# Altium footprint library Inductor_SMD.PcbLib: 587 footprints (part 34 of 37)
Each footprint in its own frame and in the unit in brackets; x right, y up, seen from the top. Pads: shape width x height; smd on the part's side, far side on the other; paste and mask are expansions set on the pad; w line width, h text height; cw(c..) or ccw(c..) is an arc to the next point about the centre after c.
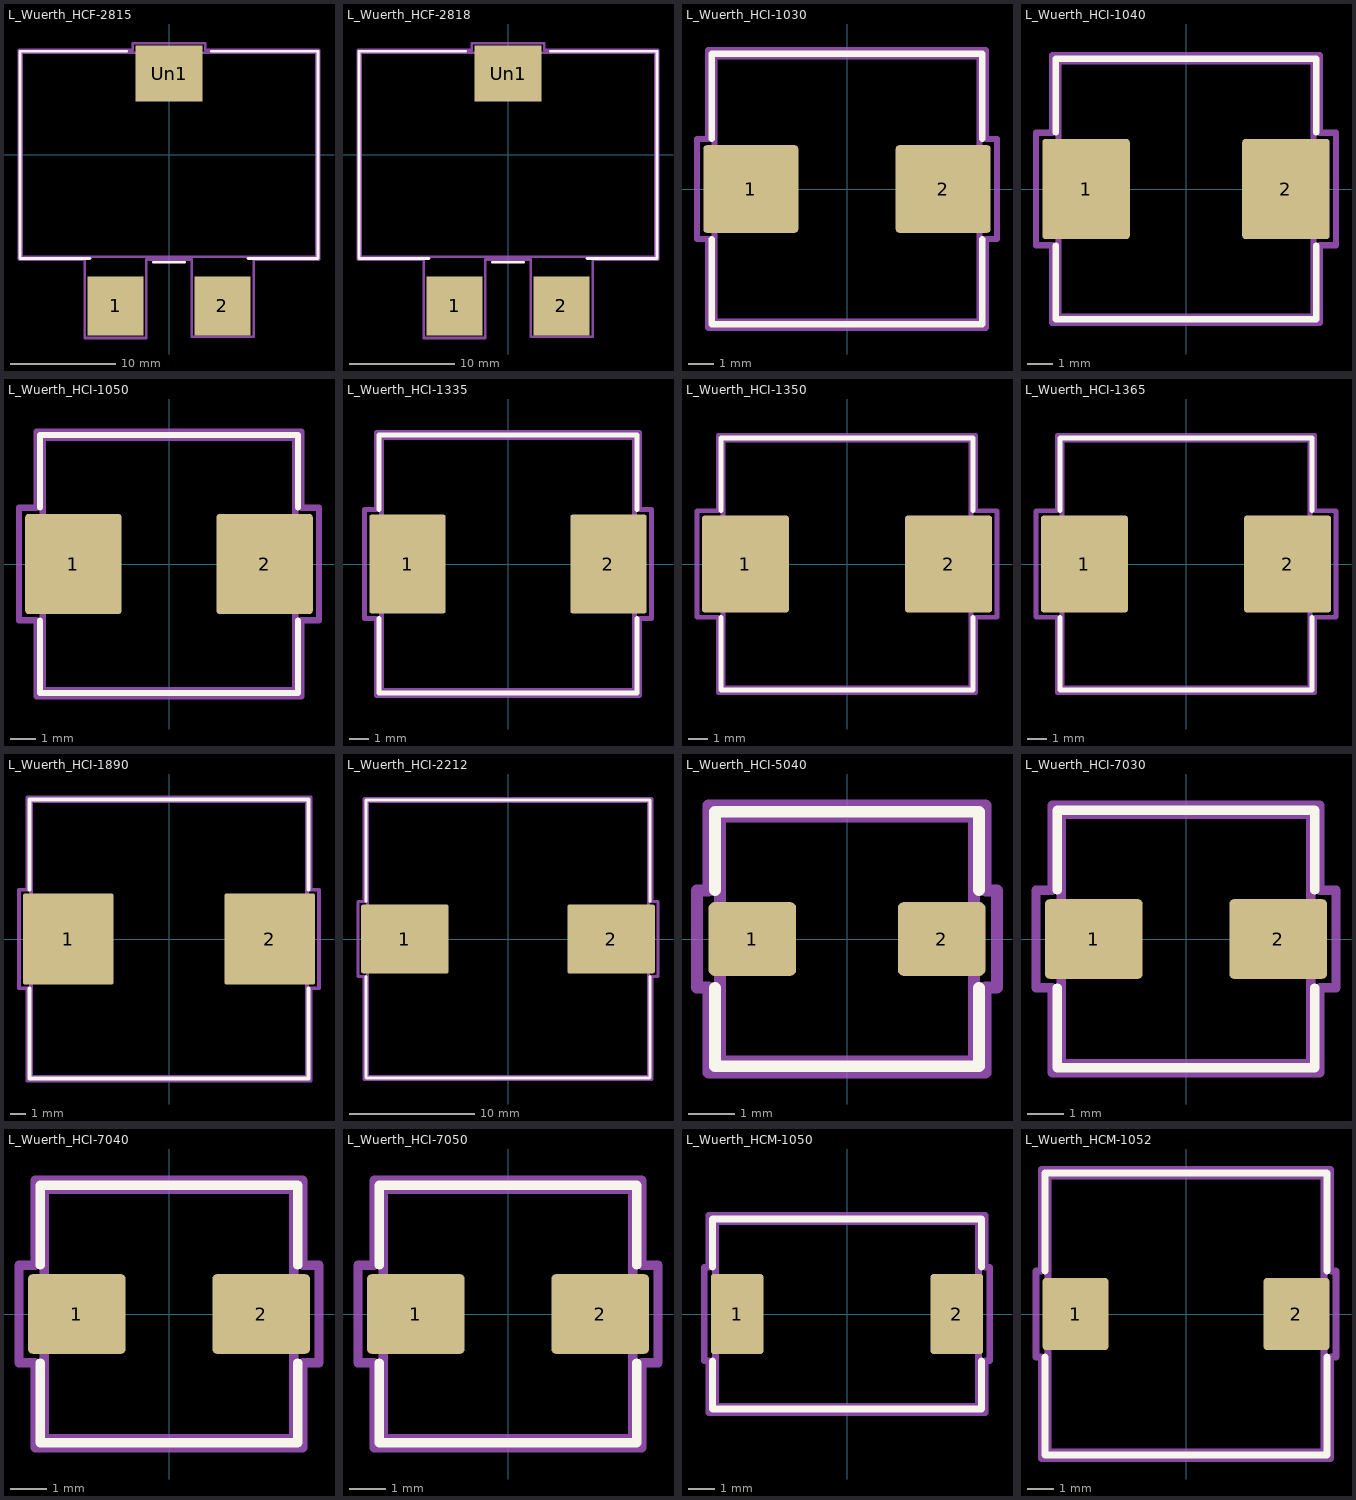
[diagram p33: the footprints below, top view; thin cyan lines are the x and y axes]

## L_Wuerth_HCF-2815 [mm] "L_Wuerth_HCF-2815"
pads (3):
  rect 5.33x5.59 smd: 1(-5.075,-14.355) 2(5.075,-14.355)
  rect 6.36x5.28 smd: Un1(0,7.72)
F.SilkS:
  lines w0.254: -7.5,-9.85 -14.15,-9.85 -14.15,9.85 -4,9.85 ; -1.5,-10.2 1.5,-10.2 ; 4,9.85 14.15,9.85 14.15,-9.85 7.5,-9.85
Top Assembly:
  lines w0.254: -14,-9.7 -14,9.7 14,9.7 14,-9.7 -14,-9.7
  text "'.Designator'" at -4.047,-2.84 h1
Top Courtyard:
  lines w0.254: -14.25,-9.95 -14.25,9.95 -3.43,9.95 -3.43,10.61 3.43,10.61 3.43,9.95 14.25,9.95 14.25,-9.95 8.05,-9.95 8.05,-17.3 2.15,-17.3 2.15,-9.95 -2.16,-9.95 -2.16,-17.4 -8,-17.4 -8,-9.95 -14.25,-9.95
Top Designator:
  text ".Designator" at -7.618,-3.903 h1.52

## L_Wuerth_HCF-2818 [mm] "L_Wuerth_HCF-2818"
pads (3):
  rect 5.33x5.59 smd: 1(-5.075,-14.355) 2(5.075,-14.355)
  rect 6.36x5.28 smd: Un1(0,7.72)
F.SilkS:
  lines w0.254: -7.5,-9.85 -14.15,-9.85 -14.15,9.85 -4,9.85 ; -1.5,-10.2 1.5,-10.2 ; 4,9.85 14.15,9.85 14.15,-9.85 7.5,-9.85
Top Assembly:
  lines w0.254: -14,-9.7 -14,9.7 14,9.7 14,-9.7 -14,-9.7
  text "'.Designator'" at -4.047,-2.84 h1
Top Courtyard:
  lines w0.254: -14.25,-9.95 -14.25,9.95 -3.43,9.95 -3.43,10.61 3.43,10.61 3.43,9.95 14.25,9.95 14.25,-9.95 8.05,-9.95 8.05,-17.3 2.15,-17.3 2.15,-9.95 -2.16,-9.95 -2.16,-17.4 -8,-17.4 -8,-9.95 -14.25,-9.95
Top Designator:
  text ".Designator" at -7.618,-3.903 h1.52

## L_Wuerth_HCI-1030 [mm] "L_Wuerth_HCI-1030"
pads (2):
  rrect7% 3.8x3.5 smd: 1(-3.85,0) 2(3.85,0)
F.SilkS:
  lines w0.254: -5.41,-2.01 -5.41,-5.41 5.41,-5.41 5.41,-2.01 ; -5.41,2.01 -5.41,5.41 5.41,5.41 5.41,2.01
Top Assembly:
  lines w0.254: -5.3,-5.3 5.3,-5.3 5.3,5.3 -5.3,5.3 -5.3,-5.3
  text "'.Designator'" at -4.047,-0.84 h1
Top Courtyard:
  lines w0.254: -6,-2 -5.55,-2 -5.55,-5.55 5.55,-5.55 5.55,-2 6,-2 6,2 5.55,2 5.55,5.55 -5.55,5.55 -5.55,2 -6,2 -6,-2
Top Designator:
  text ".Designator" at -7.618,-0.508 h1.52

## L_Wuerth_HCI-1040 [mm] "L_Wuerth_HCI-1040"
pads (2):
  rrect7% 3.5x4 smd: 1(-4,0) 2(4,0)
F.SilkS:
  lines w0.254: -5.21,-2.26 -5.21,-5.21 5.21,-5.21 5.21,-2.26 ; -5.21,2.26 -5.21,5.21 5.21,5.21 5.21,2.26
Top Assembly:
  lines w0.254: -5.1,-5.1 -5.1,5.1 5.1,5.1 5.1,-5.1 -5.1,-5.1
  text "'.Designator'" at -4.047,-0.84 h1
Top Courtyard:
  lines w0.254: -6,-2.25 -6,2.25 -5.35,2.25 -5.35,5.35 5.35,5.35 5.35,2.25 6,2.25 6,-2.25 5.35,-2.25 5.35,-5.35 -5.35,-5.35 -5.35,-2.25 -6,-2.25
Top Designator:
  text ".Designator" at -7.618,-0.508 h1.52

## L_Wuerth_HCI-1050 [mm] "L_Wuerth_HCI-1050"
pads (2):
  rrect6% 3.85x4 smd: 1(-3.825,0) 2(3.825,0)
F.SilkS:
  lines w0.254: -5.16,-2.26 -5.16,-5.16 5.16,-5.16 5.16,-2.26 ; -5.16,2.26 -5.16,5.16 5.16,5.16 5.16,2.26
Top Assembly:
  lines w0.254: -5.05,-5.05 5.05,-5.05 5.05,5.05 -5.05,5.05 -5.05,-5.05
  text "'.Designator'" at -4.047,-0.84 h1
Top Courtyard:
  lines w0.254: -6,-2.25 -5.3,-2.25 -5.3,-5.3 5.3,-5.3 5.3,-2.25 6,-2.25 6,2.25 5.3,2.25 5.3,5.3 -5.3,5.3 -5.3,2.25 -6,2.25 -6,-2.25
Top Designator:
  text ".Designator" at -7.618,-0.508 h1.52

## L_Wuerth_HCI-1335 [mm] "L_Wuerth_HCI-1335"
pads (2):
  rrect6% 3.85x5 smd: 1(-5.075,0) 2(5.075,0)
F.SilkS:
  lines w0.254: -6.51,-2.76 -6.51,-6.51 6.51,-6.51 6.51,-2.76 ; -6.51,2.76 -6.51,6.51 6.51,6.51 6.51,2.76
Top Assembly:
  lines w0.254: -6.4,-6.4 6.4,-6.4 6.4,6.4 -6.4,6.4 -6.4,-6.4
  text "'.Designator'" at -4.047,-0.84 h1
Top Courtyard:
  lines w0.254: -7.25,-2.75 -6.65,-2.75 -6.65,-6.65 6.65,-6.65 6.65,-2.75 7.25,-2.75 7.25,2.75 6.65,2.75 6.65,6.65 -6.65,6.65 -6.65,2.75 -7.25,2.75 -7.25,-2.75
Top Designator:
  text ".Designator" at -7.618,-0.508 h1.52

## L_Wuerth_HCI-1350 [mm] "L_Wuerth_HCI-1350"
pads (2):
  rrect6% 4.5x5 smd: 1(-5.25,0) 2(5.25,0)
F.SilkS:
  lines w0.254: -6.51,-2.76 -6.51,-6.51 6.51,-6.51 6.51,-2.76 ; -6.51,2.76 -6.51,6.51 6.51,6.51 6.51,2.76
Top Assembly:
  lines w0.254: -6.4,-6.4 6.4,-6.4 6.4,6.4 -6.4,6.4 -6.4,-6.4
  text "'.Designator'" at -4.047,-0.84 h1
Top Courtyard:
  lines w0.254: -7.75,-2.75 -6.65,-2.75 -6.65,-6.65 6.65,-6.65 6.65,-2.75 7.75,-2.75 7.75,2.75 6.65,2.75 6.65,6.65 -6.65,6.65 -6.65,2.75 -7.75,2.75 -7.75,-2.75
Top Designator:
  text ".Designator" at -7.618,-0.508 h1.52

## L_Wuerth_HCI-1365 [mm]
pads (2):
  rrect6% 4.5x5 smd: 1(-5.25,0) 2(5.25,0)
F.SilkS:
  lines w0.254: -6.51,-2.76 -6.51,-6.51 6.51,-6.51 6.51,-2.76 ; -6.51,2.76 -6.51,6.51 6.51,6.51 6.51,2.76
Top Assembly:
  lines w0.254: -6.4,-6.4 -6.4,6.4 6.4,6.4 6.4,-6.4 -6.4,-6.4
  text "'.Designator'" at -4.047,-0.84 h1
Top Courtyard:
  lines w0.254: -7.75,-2.75 -7.75,2.75 -6.65,2.75 -6.65,6.65 6.65,6.65 6.65,2.75 7.75,2.75 7.75,-2.75 6.65,-2.75 6.65,-6.65 -6.65,-6.65 -6.65,-2.75 -7.75,-2.75
Top Designator:
  text ".Designator" at -7.618,-0.508 h1.52

## L_Wuerth_HCI-1890 [mm] "L_Wuerth_HCI-1890"
pads (2):
  rrect4% 6x6 smd: 1(-6.65,0) 2(6.65,0)
F.SilkS:
  lines w0.254: -9.21,-3.26 -9.21,-9.21 9.21,-9.21 9.21,-3.26 ; -9.21,3.26 -9.21,9.21 9.21,9.21 9.21,3.26
Top Assembly:
  lines w0.254: -9.1,-9.1 -9.1,9.1 9.1,9.1 9.1,-9.1 -9.1,-9.1
  text "'.Designator'" at -4.047,-0.84 h1
Top Courtyard:
  lines w0.254: -9.9,-3.25 -9.9,3.25 -9.35,3.25 -9.35,9.35 9.35,9.35 9.35,3.25 9.9,3.25 9.9,-3.25 9.35,-3.25 9.35,-9.35 -9.35,-9.35 -9.35,-3.25 -9.9,-3.25
Top Designator:
  text ".Designator" at -7.618,-0.508 h1.52

## L_Wuerth_HCI-2212 [mm] "L_Wuerth_HCI-2212"
pads (2):
  rrect5% 7x5.5 smd: 1(-8.25,0) 2(8.25,0)
F.SilkS:
  lines w0.254: -11.36,-3.01 -11.36,-11.11 11.36,-11.11 11.36,-3.01 ; -11.36,3.01 -11.36,11.11 11.36,11.11 11.36,3.01
Top Assembly:
  lines w0.254: -11.25,-11 -11.25,11 11.25,11 11.25,-11 -11.25,-11
  text "'.Designator'" at -4.047,-0.84 h1
Top Courtyard:
  lines w0.254: -12,-3 -12,3 -11.5,3 -11.5,11.25 11.5,11.25 11.5,3 12,3 12,-3 11.5,-3 11.5,-11.25 -11.5,-11.25 -11.5,-3 -12,-3
Top Designator:
  text ".Designator" at -7.618,-0.508 h1.52
3D body "L_Wuerth_HCI-2212.step": height 12, standoff 0, extent -11.377,-11 11.123,11

## L_Wuerth_HCI-5040 [mm] "L_Wuerth_HCI-5040"
pads (2):
  rrect16% 1.9x1.6 smd: 1(-2.05,0) 2(2.05,0)
F.SilkS:
  lines w0.254: -2.86,-1.06 -2.86,-2.76 2.86,-2.76 2.86,-1.06 ; -2.86,1.06 -2.86,2.76 2.86,2.76 2.86,1.06
Top Assembly:
  lines w0.254: -2.75,-2.65 2.75,-2.65 2.75,2.65 -2.75,2.65 -2.75,-2.65
  text "'.Designator'" at -4.047,-0.84 h1
Top Courtyard:
  lines w0.254: -3.25,-1.05 -3,-1.05 -3,-2.9 3,-2.9 3,-1.05 3.25,-1.05 3.25,1.05 3,1.05 3,2.9 -3,2.9 -3,1.05 -3.25,1.05 -3.25,-1.05
Top Designator:
  text ".Designator" at -7.768,-0.508 h1.52

## L_Wuerth_HCI-7030 [mm] "L_Wuerth_HCI-7030"
pads (2):
  rrect11% 2.7x2.2 smd: 1(-2.55,0) 2(2.55,0)
F.SilkS:
  lines w0.254: -3.56,-1.36 -3.56,-3.56 3.56,-3.56 3.56,-1.36 ; -3.56,1.36 -3.56,3.56 3.56,3.56 3.56,1.36
Top Assembly:
  lines w0.254: -3.45,-3.45 -3.45,3.45 3.45,3.45 3.45,-3.45 -3.45,-3.45
  text "'.Designator'" at -4.047,-0.84 h1
Top Courtyard:
  lines w0.254: -4.15,-1.35 -4.15,1.35 -3.7,1.35 -3.7,3.7 3.7,3.7 3.7,1.35 4.15,1.35 4.15,-1.35 3.7,-1.35 3.7,-3.7 -3.7,-3.7 -3.7,-1.35 -4.15,-1.35
Top Designator:
  text ".Designator" at -7.618,-0.508 h1.52

## L_Wuerth_HCI-7040 [mm] "L_Wuerth_HCI-7040"
pads (2):
  rrect11% 2.7x2.2 smd: 1(-2.55,0) 2(2.55,0)
F.SilkS:
  lines w0.254: -3.56,-1.36 -3.56,-3.56 3.56,-3.56 3.56,-1.36 ; -3.56,1.36 -3.56,3.56 3.56,3.56 3.56,1.36
Top Assembly:
  lines w0.254: -3.45,-3.45 3.45,-3.45 3.45,3.45 -3.45,3.45 -3.45,-3.45
  text "'.Designator'" at -4.047,-0.84 h1
Top Courtyard:
  lines w0.254: -4.15,-1.35 -3.7,-1.35 -3.7,-3.7 3.7,-3.7 3.7,-1.35 4.15,-1.35 4.15,1.35 3.7,1.35 3.7,3.7 -3.7,3.7 -3.7,1.35 -4.15,1.35 -4.15,-1.35
Top Designator:
  text ".Designator" at -7.618,-0.508 h1.52

## L_Wuerth_HCI-7050 [mm] "L_Wuerth_HCI-7050"
pads (2):
  rrect11% 2.7x2.2 smd: 1(-2.55,0) 2(2.55,0)
F.SilkS:
  lines w0.254: -3.56,-1.36 -3.56,-3.56 3.56,-3.56 3.56,-1.36 ; -3.56,1.36 -3.56,3.56 3.56,3.56 3.56,1.36
Top Assembly:
  lines w0.254: -3.45,-3.45 3.45,-3.45 3.45,3.45 -3.45,3.45 -3.45,-3.45
  text "'.Designator'" at -4.047,-0.84 h1
Top Courtyard:
  lines w0.254: -4.15,-1.35 -3.7,-1.35 -3.7,-3.7 3.7,-3.7 3.7,-1.35 4.15,-1.35 4.15,1.35 3.7,1.35 3.7,3.7 -3.7,3.7 -3.7,1.35 -4.15,1.35 -4.15,-1.35
Top Designator:
  text ".Designator" at -7.618,-0.508 h1.52

## L_Wuerth_HCM-1050 [mm] "L_Wuerth_HCM-1050"
pads (2):
  rrect12% 2x3.05 smd: 1(-4.175,0) 2(4.175,0)
F.SilkS:
  lines w0.254: -5.11,-1.785 -5.11,-3.61 5.11,-3.61 5.11,-1.785 ; -5.11,1.785 -5.11,3.61 5.11,3.61 5.11,1.785
Top Assembly:
  lines w0.254: -5,-3.5 -5,3.5 5,3.5 5,-3.5 -5,-3.5
  text "'.Designator'" at -4.047,-0.84 h1
Top Courtyard:
  lines w0.254: -5.43,-1.78 -5.43,1.78 -5.25,1.78 -5.25,3.75 5.25,3.75 5.25,1.78 5.43,1.78 5.43,-1.78 5.25,-1.78 5.25,-3.75 -5.25,-3.75 -5.25,-1.78 -5.43,-1.78
Top Designator:
  text ".Designator" at -7.618,-0.508 h1.52

## L_Wuerth_HCM-1052 [mm] "L_Wuerth_HCM-1052"
pads (2):
  rrect10% 2.45x2.7 smd: 1(-4.125,0) 2(4.125,0)
F.SilkS:
  lines w0.254: -5.26,-1.61 -5.26,-5.26 5.26,-5.26 5.26,-1.61 ; -5.26,1.61 -5.26,5.26 5.26,5.26 5.26,1.61
Top Assembly:
  lines w0.254: -5.15,-5.15 -5.15,5.15 5.15,5.15 5.15,-5.15 -5.15,-5.15
  text "'.Designator'" at -4.047,-0.84 h1
Top Courtyard:
  lines w0.254: -5.6,-1.6 -5.6,1.6 -5.4,1.6 -5.4,5.4 5.4,5.4 5.4,1.6 5.6,1.6 5.6,-1.6 5.4,-1.6 5.4,-5.4 -5.4,-5.4 -5.4,-1.6 -5.6,-1.6
Top Designator:
  text ".Designator" at -7.618,-0.508 h1.52